# EAGLE library part 74LS197 (library 74ls197)
74LS197 High-speed monolythic divide-by-two and divide-by-eight counters.
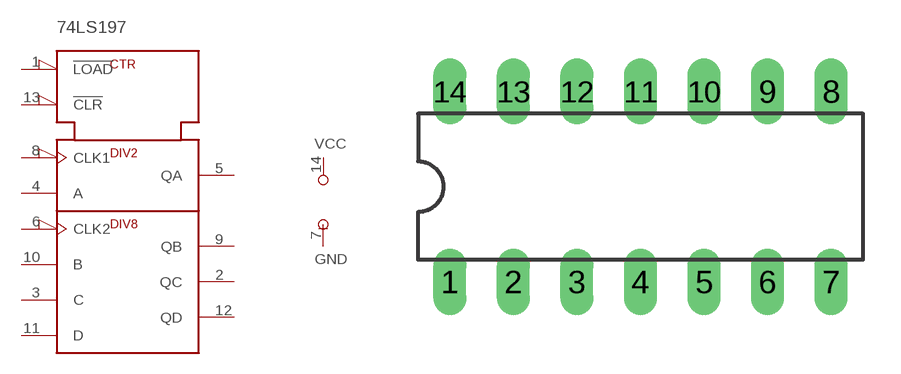
[diagram p0: symbol with the pads of DIL14; footprint DIL14]

Designator prefix -; gates G$1=197 G$2=PWR

## 74LS197  [DIL14]
1  G$1:!LOAD!  in
2  G$1:QC  out
3  G$1:C  in
4  G$1:A  in
5  G$1:QA  out
6  G$1:CLK2  in
7  G$2:GND  pwr
8  G$1:CLK1  in
9  G$1:QB  out
10  G$1:B  in
11  G$1:D  in
12  G$1:QD  out
13  G$1:!CLR!  in
14  G$2:VCC  pwr

## Footprint DIL14 (pad centres in mm)
drill 0.813 long: 1 -7.62,-3.81; 2 -5.08,-3.81; 3 -2.54,-3.81; 4 0,-3.81; 5 2.54,-3.81; 6 5.08,-3.81; 7 7.62,-3.81; 8 7.62,3.81; 9 5.08,3.81; 10 2.54,3.81; 11 0,3.81; 12 -2.54,3.81; 13 -5.08,3.81; 14 -7.62,3.81